# EAGLE library part MCP65R41 (library Tristan+Robitaille's+Library)
Microchip Comparator with Integrated Reference Voltage Technical specifications: Input voltage range: 1.8V to 5.5V Quiescent current: 2.5µA MCP65R41 --> Push-pull MCP65R46 --> Open-drain Datasheet <http://ww1.microchip.com/downloads/en/DeviceDoc/22269B.pdf> Digi-Key part #: MCP65R41T-2402E/CHYCT-ND <http://www.digikey.ca/product-detail/en/microchip-technology/MCP65R41T-2402E-CHY/MCP65R41T-2402E-CHYCT-ND/2618483> Mouser part #: 579-MCP65R41T2402ECH <http://ca.mouser.com/ProductDetail/Microchip-Technology/MCP65R41T-2402E-CHY/?qs=sGAEpiMZZMuayl%2fEk2kXcd1qrMx8iACev9voTq8ny64%3d> Manufacturer part #: MCP65R41T-2402E/CHY
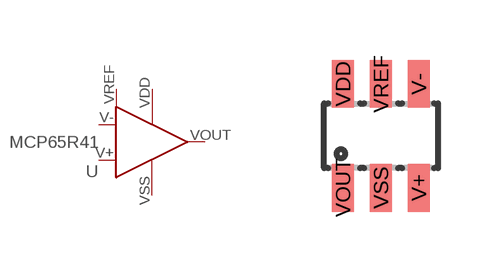
[diagram p10: symbol with the pads of SOT23-6L_MCP65R41; footprint SOT23-6L_MCP65R41]

Designator prefix U

## MCP65R41  [SOT23-6L_MCP65R41]
V+  V+  in
V-  V-  in
VDD  VDD  pwr
VOUT  VOUT  out
VREF  VREF  out
VSS  GND  pwr

## Footprint SOT23-6L_MCP65R41 (pad centres in mm)
Small Outline Transistor
smd 0.55 x 1.2: V+ 0.95,-1.3; V- 0.95,1.3; VDD -0.95,1.3; VOUT -0.95,-1.3; VREF 0,1.3; VSS 0,-1.3